# Altium footprint library Mod-A4988.PcbLib: 1 footprints
Each footprint in its own frame and in the unit in brackets; x right, y up, seen from the top. Pads: shape width x height; smd on the part's side, far side on the other; paste and mask are expansions set on the pad; w line width, h text height; cw(c..) or ccw(c..) is an arc to the next point about the centre after c.
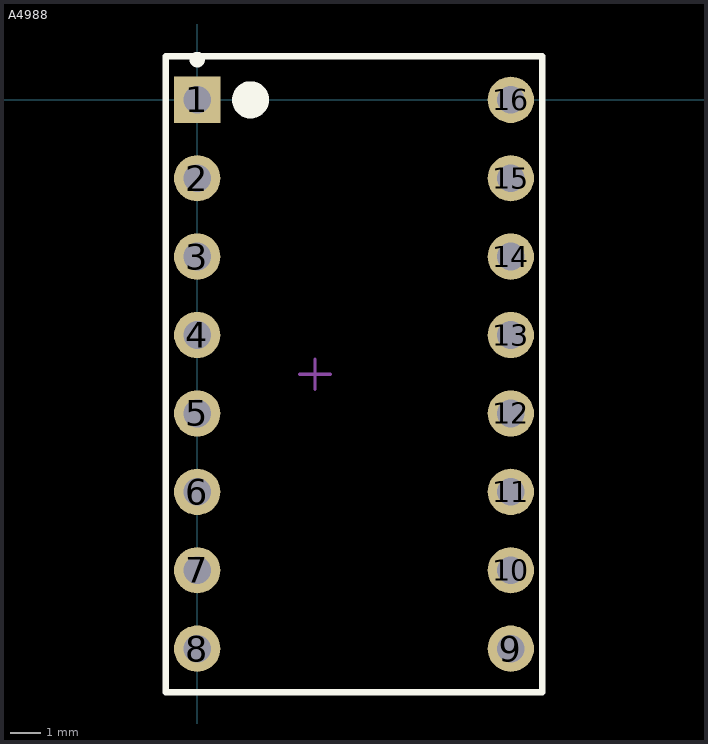
[diagram p0: the footprint, top view; thin cyan lines are the x and y axes]

## A4988 [mm]
height 5.08
pads (16):
  rect 1.5x1.5 hole 0.9: 1(0,0)
  round 1.5 hole 0.9: 2(0,-2.54) 3(0,-5.08) 4(0,-7.62) 5(0,-10.16) 6(0,-12.7) 7(0,-15.24) 8(0,-17.78) 9(10.16,-17.78) 10(10.16,-15.24) 11(10.16,-12.7) 12(10.16,-10.16) 13(10.16,-7.62) 14(10.16,-5.08) 15(10.16,-2.54) 16(10.16,0)
Top Overlay:
  circle w0.6: c1.732,0 r0.3
  circle w0.25: c0,1.3 r0.125
  lines w0.2: -1.016,-19.19 11.176,-19.19 11.176,1.41 -1.016,1.41 -1.016,-19.19
Mechanical 13:
  lines w0.1: 0.21,-19.165 7.41,-19.165
Mechanical 15:
  lines w0.1: 3.31,-8.89 4.31,-8.89 ; 3.81,-9.39 3.81,-8.39